# EAGLE library part DF11CZ-24DS (library con-Hirose)
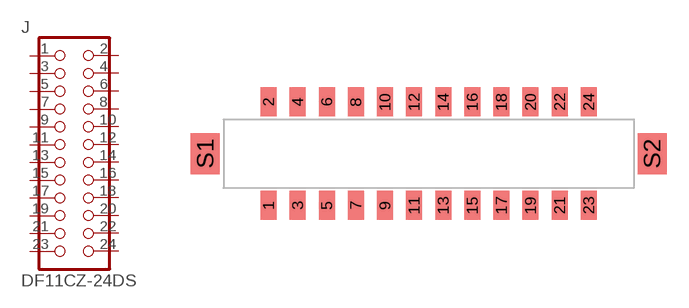
[diagram p1: symbol with the pads of DF11CZ-24DS; footprint DF11CZ-24DS]

Designator prefix J

## DF11CZ-24DS  [DF11CZ-24DS]
1  1  pas
2  2  pas
3  3  pas
4  4  pas
5  5  pas
6  6  pas
7  7  pas
8  8  pas
9  9  pas
10  10  pas
11  11  pas
12  12  pas
13  13  pas
14  14  pas
15  15  pas
16  16  pas
17  17  pas
18  18  pas
19  19  pas
20  20  pas
21  21  pas
22  22  pas
23  23  pas
24  24  pas

## Footprint DF11CZ-24DS (pad centres in mm)
smd 1.1 x 2: 1 -11,-3.55; 2 -11,3.55; 3 -9,-3.55; 4 -9,3.55; 5 -7,-3.55; 6 -7,3.55; 7 -5,-3.55; 8 -5,3.55; 9 -3,-3.55; 10 -3,3.55; 11 -1,-3.55; 12 -1,3.55; 13 1,-3.55; 14 1,3.55; 15 3,-3.55; 16 3,3.55; 17 5,-3.55; 18 5,3.55; 19 7,-3.55; 20 7,3.55; 21 9,-3.55; 22 9,3.55; 23 11,-3.55; 24 11,3.55
smd 2 x 2.8: S1 -15.35,0; S2 15.35,0